# EAGLE library part SA3611EWA (library RadioStack_v2)
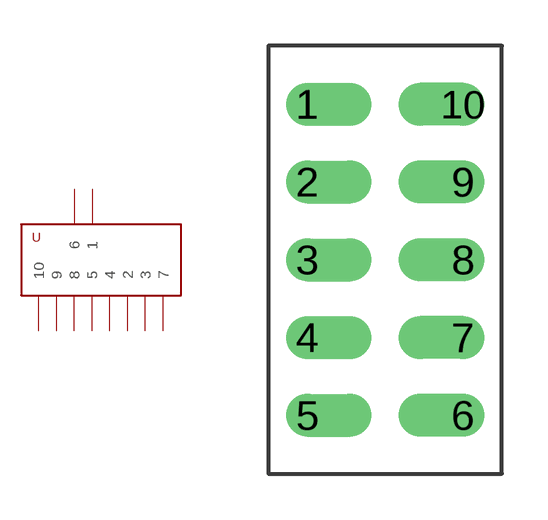
[diagram p0: symbol with the pads of SA3611EWA; footprint SA3611EWA]

Designator prefix -

## SA3611EWA  [SA3611EWA]
1  1
2  2
3  3
4  4
5  5
6  6
7  7
8  8
9  9
10  10

## Footprint SA3611EWA (pad centres in mm)
drill 0.889 pad 1.27 offset: 1 0,0; 2 0,-2.54; 3 0,-5.08; 4 0,-7.62; 5 0,-10.16; 6 5.08,-10.16; 7 5.08,-7.62; 8 5.08,-5.08; 9 5.08,-2.54; 10 5.08,0